# Altium footprint library Remoter.PcbLib: 26 footprints (part 2 of 2)
Each footprint in its own frame and in the unit in brackets; x right, y up, seen from the top. Pads: shape width x height; smd on the part's side, far side on the other; paste and mask are expansions set on the pad; w line width, h text height; cw(c..) or ccw(c..) is an arc to the next point about the centre after c.
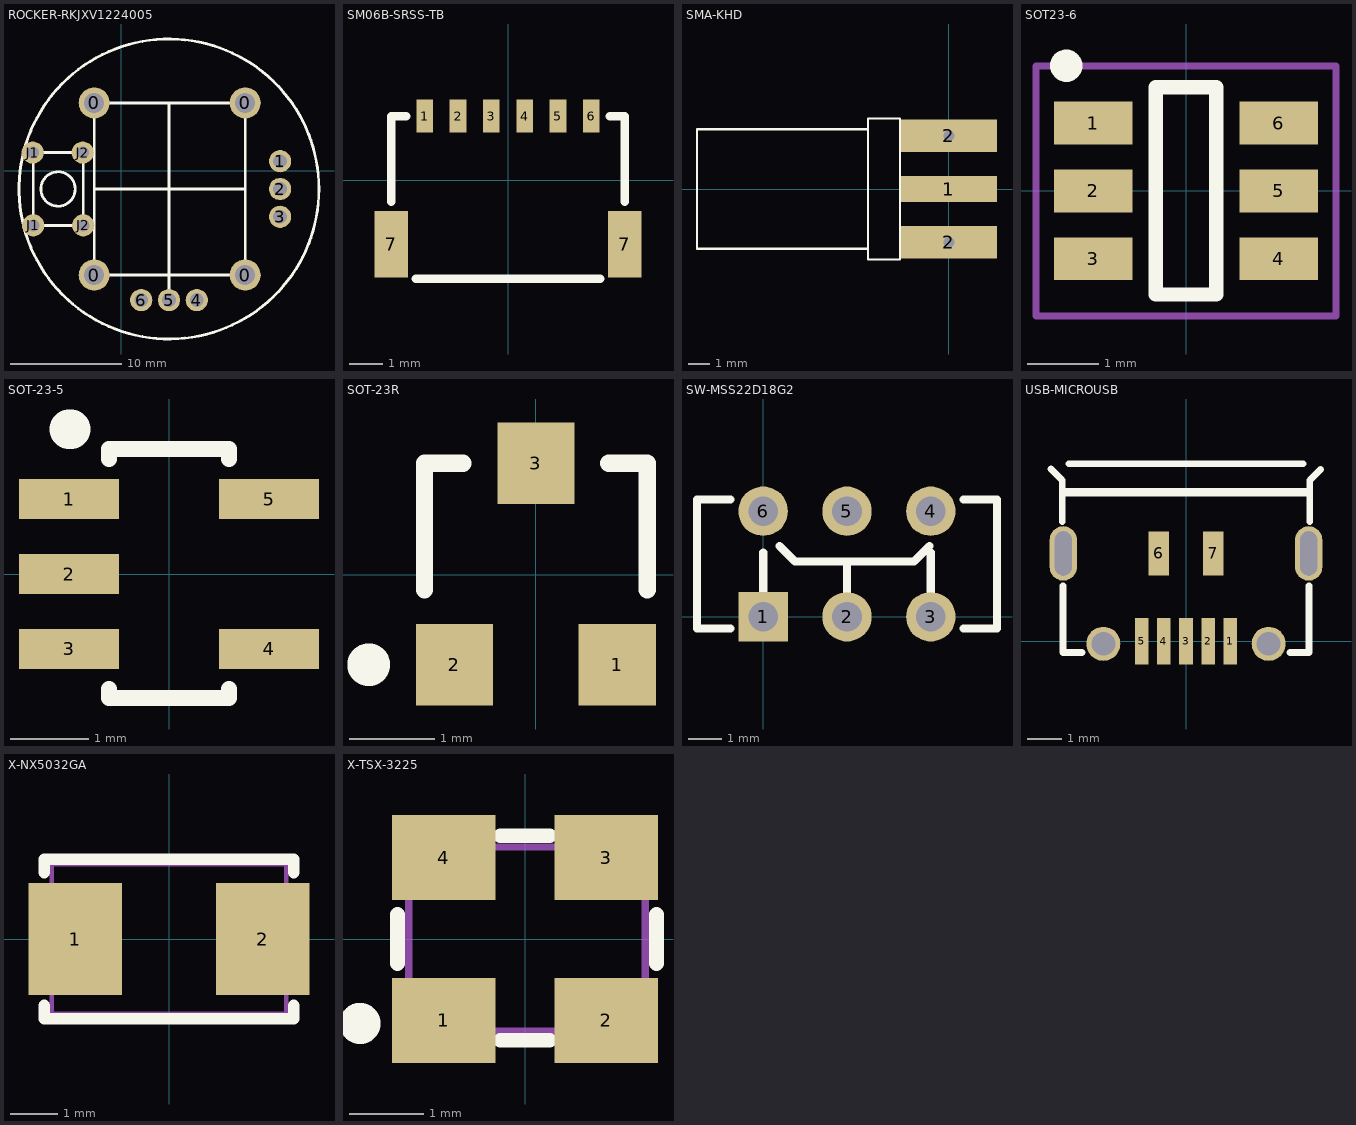
[diagram p1: the footprints below, top view; thin cyan lines are the x and y axes]

## ROCKER-RKJXV1224005 [mm]
pads (14):
  round 2.8 hole 1.8: 0(-2.413,-9.398) 0(-2.413,6.102) 0(11.176,-9.398) 0(11.176,6.102)
  round 2 hole 1.25: 1(14.318,0.849) 2(14.318,-1.651) 3(14.318,-4.151) 4(6.818,-11.651) 5(4.318,-11.651) 6(1.818,-11.651)
  round 2 hole 1.1: J1(-7.95,1.626) J1(-7.904,-4.925) J2(-3.45,1.626) J2(-3.404,-4.925)
Top Overlay:
  circle w0.254: c-5.664,-1.651 r1.547
  circle w0.254: c4.318,-1.651 r13.5
  lines w0.254: -7.95,1.626 -3.45,1.626 -3.404,1.579 -3.404,-4.925 -7.904,-4.925 -7.904,1.579 ; -2.413,-1.651 4.318,-1.651 ; 4.318,-11.651 4.318,-1.651 ; 4.318,6.102 4.318,-1.651 ; 11.087,-9.398 -2.413,-9.398 -2.413,6.102 11.087,6.102 ; 11.176,-9.398 11.176,6.102 ; 11.176,-1.651 4.318,-1.651
3D body "1.STEP": height 29.13, standoff -4.22, extent -11.565,-14.783 17.61,11.517

## SM06B-SRSS-TB [mm]
pads (8):
  rect 0.5x1 smd: 1(-2.5,1.925) 2(-1.5,1.925) 3(-0.5,1.925) 4(0.5,1.925) 5(1.5,1.925) 6(2.5,1.925)
  rect 1x2 smd: 7(-3.5,-1.925) 7(3.5,-1.925)
Top Overlay:
  lines w0.254: -3.508,-0.64 -3.508,1.925 -3.05,1.925 ; -2.771,-2.952 2.771,-2.952 ; 3.05,1.925 3.508,1.925 3.508,-0.64
3D body "User Library-JST - SM06B-SRSS-TB (SH SERIES - 1_0mm PITCH WIRE-TO-BOARD, SMT, RA).STEP": height 2.9, standoff 0, extent -4,-2.827 4,2.122

## SMA-KHD [mm]
pads (3):
  rect 4.5x1.2 smd: 1(0,0)
  rect 4.5x1.524 hole 0.5: 2(0,-2.5) 2(0,2.5)
Top Overlay:
  lines w0.1: -3.8,-2.8 -11.8,-2.8 -11.8,2.8 -3.8,2.8 ; -3.8,-3.3 -2.3,-3.3 -2.3,3.3 -3.8,3.3 -3.8,-3.3
3D body "User Library-SMA-KHD19A.STEP": height 3.2, standoff -2.9, extent -12.103,-3.075 1.397,3.025

## SOT23-6 [mm]
pads (6):
  rect 1.1x0.6 smd: 1(-1.3,0.95) 2(-1.3,0) 3(-1.3,-0.95) 4(1.3,-0.95) 5(1.3,0) 6(1.3,0.95)
Top Overlay:
  circle w0.35: c-1.676,1.753 r0.051
  lines w0.2: -0.425,-1.45 0.425,-1.45 0.425,1.45 -0.425,1.45 -0.425,-1.45
Mechanical 15:
  lines w0.1: -2.1,-1.75 2.1,-1.75 2.1,1.75 -2.1,1.75 -2.1,-1.75
3D body "User Library-sot-23-6-2.STEP": height 1.09, standoff 0, extent -1.213,-1.397 1.213,1.397

## SOT-23-5 [mil]
pads (5):
  rect 50x20 smd: 1(-50,37.4) 2(-50,0) 3(-50,-37.4) 4(50,-37.4) 5(50,37.4)
Top Overlay:
  lines w8: -30,-57.6 -30,-61.92 30,-61.92 30,-57.6 ; -30,57.4 -30,62.4 30,62.4 30,57.4
  lines w19.68: -50,72.4 -49,72.4
3D body "SOT-23-5.STEP": height 47.24, standoff 0, extent -55.11,-57.09 55.12,57.09

## SOT-23R [mm]
pads (3):
  rect 0.9x0.95 smd: 1(0.95,-1.048) 2(-0.95,-1.048) 3(0,1.302)
Top Overlay:
  circle w0.25: c-1.95,-1.048 r0.125
  lines w0.2: -1.3,-0.173 -1.3,1.302 -0.85,1.302 ; 0.85,1.302 1.3,1.302 1.3,-0.173
3D body "SOT-23-3.STEP": height 1.2, standoff 0, extent -1.439,-1.263 1.461,1.537

## SW-MSS22D18G2 [mm]
pads (6):
  rect 1.5x1.5 hole 0.9: 1(0,0)
  round 1.5 hole 0.9: 2(2.54,0) 3(5.08,0) 4(5.08,3.2) 5(2.54,3.2) 6(0,3.2)
Top Overlay:
  lines w0.254: -0.991,-0.356 -2.007,-0.356 -2.007,3.556 -0.991,3.556 ; 0,0 0,1.948 ; 0.495,2.146 0.965,1.676 4.572,1.676 5.042,2.146 ; 2.54,0 2.54,1.676 ; 5.08,0 5.08,1.948 ; 6.071,-0.356 7.087,-0.356 7.087,3.556 6.071,3.556
3D body "MMP221.STEP": height 5.5, standoff -2.95, extent -1.934,-0.225 7.066,3.375

## USB-MICROUSB [mm]
pads (11):
  rect 0.4x1.35 smd: 1(1.3,0) 2(0.65,0) 3(0,0) 4(-0.65,0) 5(-1.3,0)
  rect 0.6x1.3 smd: 6(-0.8,2.575) 7(0.8,2.575)
  oval 0.8x1.6 hole 0.5 slot 1.3 at 90 deg: ""(-3.6,2.575) ""(3.6,2.575)
  round 1 hole 0.7: ""(-2.425,-0.075) ""(2.425,-0.075)
Top Overlay:
  lines w0.2: -3.962,5.055 -3.632,4.724 -3.632,3.505 ; -3.607,1.626 -3.607,-0.33 -3.048,-0.33 ; -3.429,5.207 3.429,5.207 ; 3.048,-0.33 3.607,-0.33 3.607,1.626 ; 3.632,3.505 3.632,4.724 3.95,5.042
  lines w0.25: -3.607,4.375 3.607,4.375
3D body "User Library-MicroUSB-B_Molex_105017-0001.STEP": height 2.68, standoff -0.63, extent -4.1,-0.237 4.1,5.193

## X-NX5032GA [mm]
pads (2):
  rect 2x2.4 smd: 1(-2,0) 2(2,0)
Top Overlay:
  lines w0.25: -2.66,-1.42 -2.66,-1.7 2.66,-1.7 2.66,-1.42 ; -2.66,1.42 -2.66,1.7 2.66,1.7 2.66,1.42
Mechanical 13:
  lines w0.1: -2.5,-1.6 -2.5,1.6 2.5,1.6 2.5,-1.6 -2.5,-1.6
3D body "User Library-ABM3-1.STEP": height 1.3, standoff 0, extent -2.5,-1.6 2.5,1.6

## X-TSX-3225 [mm]
pads (4):
  rect 1.4x1.15 smd: 1(-1.1,-1.1) 2(1.1,-1.1) 3(1.1,1.1) 4(-1.1,1.1)
Top Overlay:
  circle w0.508: c-2.235,-1.143 r0.025
  lines w0.2: -1.727,-0.33 -1.727,0.33 ; -0.33,-1.372 0.33,-1.372 ; -0.33,1.397 0.33,1.397 ; 1.778,-0.33 1.778,0.33
Mechanical 15:
  lines w0.1: -1.575,-1.245 1.626,-1.245 1.626,1.245 -1.575,1.245 -1.575,-1.245
3D body "User Library-3225-1.STEP": height 0.61, standoff 0, extent -1.574,-1.25 1.626,1.25